# EAGLE library part CONN16 (library mastrogippo)
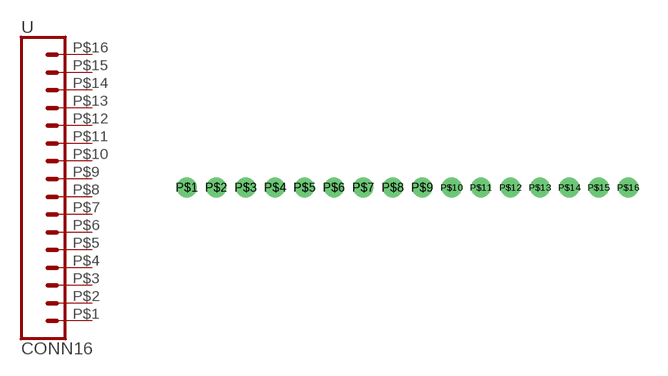
[diagram p42: symbol with the pads of CONN16_1.5; footprint CONN16_1.5]

Designator prefix -

## CONN16  [CONN16_1.5]
P$1  1  pas
P$2  2  pas
P$3  3  pas
P$4  4  pas
P$5  5  pas
P$6  6  pas
P$7  7  pas
P$8  8  pas
P$9  9  pas
P$10  10  pas
P$11  11  pas
P$12  12  pas
P$13  13  pas
P$14  14  pas
P$15  15  pas
P$16  16  pas

## Footprint CONN16_1.5 (pad centres in mm)
drill 0.5 pad 1: P$1 0,0; P$2 1.5,0; P$3 3,0; P$4 4.5,0; P$5 6,0; P$6 7.5,0; P$7 9,0; P$8 10.5,0; P$9 12,0; P$10 13.5,0; P$11 15,0; P$12 16.5,0; P$13 18,0; P$14 19.5,0; P$15 21,0; P$16 22.5,0